# Altium schematic symbol library 1128.SchLib: 1 symbol
Pins are listed as number, name and electrical type; pins without a type are passive.

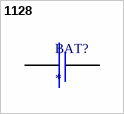
[diagram p0: symbol 1128]

## 1128
designator BAT?
16340/C123A Battery Holder
footprint 1128
pins: 1 +, 2 -